# Altium schematic symbol library USB-A-D-F-W-TH.SchLib: 1 symbol
Pins are listed as number, name and electrical type; pins without a type are passive.

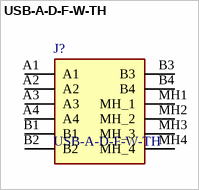
[diagram p0: symbol USB-A-D-F-W-TH]

## USB-A-D-F-W-TH
designator J?
SAMTEC - USB-A-D-F-W-TH - USB Stacked Connector, USB Type A, USB 2.0, 8 Ways, Right Angle, Phosphor Bronze; Geometry.Height: 16.09mm; Manufacturer_Name: SAMTEC; Manufacturer_Part_Number: USB-A-D-F-W-TH; Mouser Part Number: 200-USBADFWTH; Mouser Price/Stock: https://www.mouser.co.uk/ProductDetail/Samtec/USB-A-D-F-W-TH?qs=Cqqh%252BS766wn0jJmLeJ6S%2Fg%3D%3D; Arrow Part Number: USB-A-D-F-W-TH; Arrow Price/Stock: https://www.arrow.com/en/products/usb-a-d-f-w-th/samtec?region=nac; Datasheet Link: https://suddendocs.samtec.com/prints/usb-a-d-x-x-th-x-mkt.pdf
footprint USBADFWTH
pins: A1, A2, A3, A4, B1, B2, B3, B4, MH1 MH_1, MH2 MH_2, MH3 MH_3, MH4 MH_4